# Altium schematic symbol library FPGA_Xilinx_Kintex7.SchLib: 18 symbols (part 4 of 8)
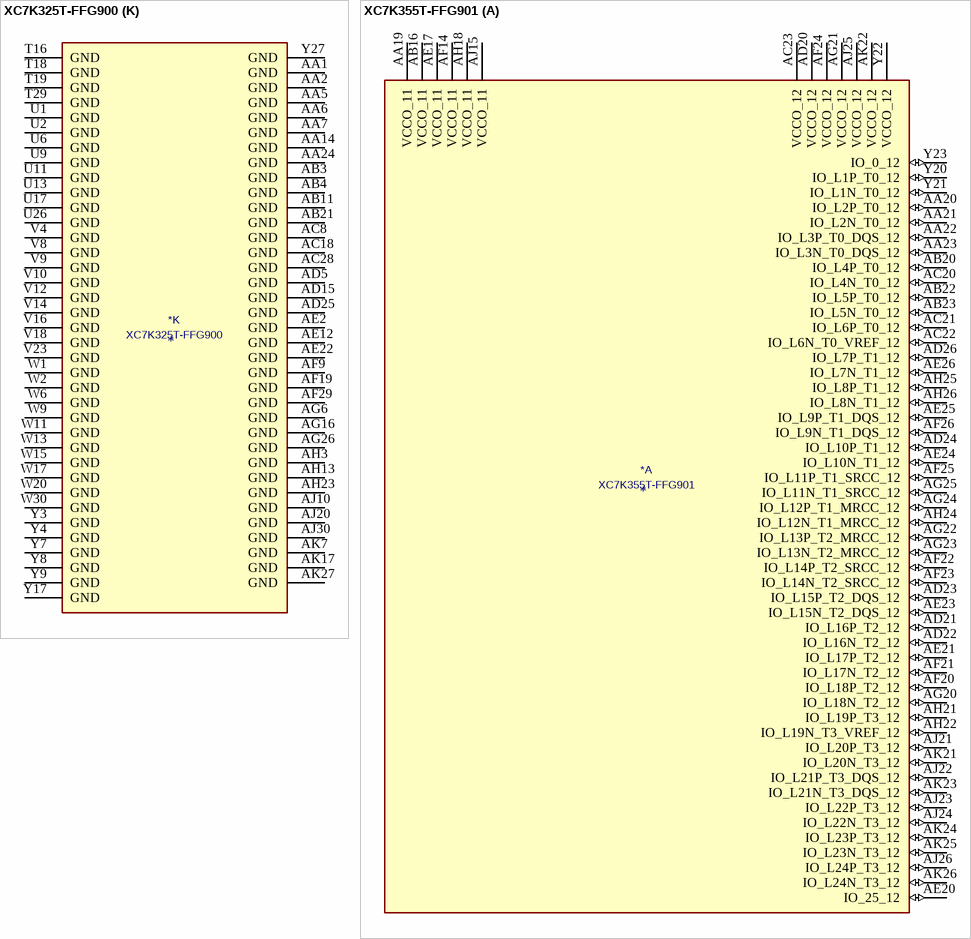
[diagram p55: symbols XC7K325T-FFG900 to XC7K355T-FFG901]

## XC7K325T-FFG900
designator *  value XC7K325T-FFG900
ki_keywords: FPGA; ki_description: Kintex 7 T 325 XC7K325T-FFG900
part A pins: AA20 IO_L6P_T0_12 (io), AA21 IO_L2N_T0_12 (io), AA22 IO_L4P_T0_12 (io), AA23 IO_L4N_T0_12 (io), AA25 IO_L6P_T0_13 (io), AA26 IO_L1N_T0_13 (io), AA27 IO_L5P_T0_13 (io), AA28 IO_L3N_T0_DQS_13 (io), AA29 VCCO_13 (power), AA30 IO_L8N_T1_13 (io), AB20 IO_L6N_T0_VREF_12 (io), AB22 IO_L3P_T0_DQS_12 (io), AB23 IO_L3N_T0_DQS_12 (io), AB24 IO_L7P_T1_12 (io), AB25 IO_L6N_T0_VREF_13 (io), AB26 VCCO_13 (power), AB27 IO_L12P_T1_MRCC_13 (io), AB28 IO_L5N_T0_13 (io), AB29 IO_L10P_T1_13 (io), AB30 IO_L10N_T1_13 (io), AC20 IO_L5P_T0_12 (io), AC21 IO_L5N_T0_12 (io), AC22 IO_L8P_T1_12 (io), AC23 VCCO_12 (power), AC24 IO_L9P_T1_DQS_12 (io), AC25 IO_L7N_T1_12 (io), AC26 IO_L19P_T3_13 (io), AC27 IO_L12N_T1_MRCC_13 (io), AC29 IO_L7P_T1_13 (io), AC30 IO_L7N_T1_13 (io), AD20 VCCO_12 (power), AD21 IO_L10P_T1_12 (io), AD22 IO_L8N_T1_12 (io), AD23 IO_L12P_T1_MRCC_12 (io), AD24 IO_L9N_T1_DQS_12 (io), AD26 IO_L19N_T3_VREF_13 (io), AD27 IO_L11P_T1_SRCC_13 (io), AD28 IO_L11N_T1_SRCC_13 (io), AD29 IO_L9P_T1_DQS_13 (io), AD30 VCCO_13 (power), AE20 IO_25_12 (io), AE21 IO_L10N_T1_12 (io), AE23 IO_L11P_T1_SRCC_12 (io), AE24 IO_L12N_T1_MRCC_12 (io), AE25 IO_L16P_T2_12 (io), AE26 IO_25_13 (io), AE27 VCCO_13 (power), AE28 IO_L14P_T2_SRCC_13 (io), AE29 IO_L9N_T1_DQS_13 (io), AE30 IO_L16P_T2_13 (io), AF20 IO_L19P_T3_12 (io), AF21 IO_L19N_T3_VREF_12 (io), AF22 IO_L13P_T2_MRCC_12 (io), AF23 IO_L11N_T1_SRCC_12 (io), AF24 VCCO_12 (power), AF25 IO_L16N_T2_12 (io), AF26 IO_L23P_T3_13 (io), AF27 IO_L23N_T3_13 (io), AF28 IO_L14N_T2_SRCC_13 (io), AF30 IO_L16N_T2_13 (io), AG20 IO_L22P_T3_12 (io), AG21 VCCO_12 (power), AG22 IO_L20P_T3_12 (io), AG23 IO_L13N_T2_MRCC_12 (io), AG24 IO_L14P_T2_SRCC_12 (io), AG25 IO_L18P_T2_12 (io), AG27 IO_L21P_T3_DQS_13 (io), AG28 IO_L21N_T3_DQS_13 (io), AG29 IO_L13P_T2_MRCC_13 (io), AG30 IO_L18P_T2_13 (io), AH20 IO_L22N_T3_12 (io), AH21 IO_L23P_T3_12 (io), AH22 IO_L20N_T3_12 (io), AH24 IO_L14N_T2_SRCC_12 (io), AH25 IO_L18N_T2_12 (io), AH26 IO_L22P_T3_13 (io), AH27 IO_L22N_T3_13 (io), AH28 VCCO_13 (power), AH29 IO_L13N_T2_MRCC_13 (io), AH30 IO_L18N_T2_13 (io), AJ21 IO_L23N_T3_12 (io), AJ22 IO_L21P_T3_DQS_12 (io), AJ23 IO_L21N_T3_DQS_12 (io), AJ24 IO_L15P_T2_DQS_12 (io), AJ25 VCCO_13 (power), AJ26 IO_L24P_T3_13 (io), AJ27 IO_L20P_T3_13 (io), AJ28 IO_L17P_T2_13 (io), AJ29 IO_L17N_T2_13 (io), AK20 IO_L24P_T3_12 (io), AK21 IO_L24N_T3_12 (io), AK22 VCCO_12 (power), AK23 IO_L17P_T2_12 (io), AK24 IO_L17N_T2_12 (io), AK25 IO_L15N_T2_DQS_12 (io), AK26 IO_L24N_T3_13 (io), AK28 IO_L20N_T3_13 (io), AK29 IO_L15P_T2_DQS_13 (io), AK30 IO_L15N_T2_DQS_13 (io), W27 IO_L2P_T0_13 (io), W28 IO_L2N_T0_13 (io), W29 IO_L4P_T0_13 (io), Y20 IO_0_12 (io), Y21 IO_L2P_T0_12 (io), Y22 VCCO_12 (power), Y23 IO_L1P_T0_12 (io), Y24 IO_L1N_T0_12 (io), Y25 IO_0_13 (io), Y26 IO_L1P_T0_13 (io), Y28 IO_L3P_T0_DQS_13 (io), Y29 IO_L4N_T0_13 (io), Y30 IO_L8P_T1_13 (io)
part B pins: H29 IO_L7N_T1_AD10N_15 (io), J21 IO_L5P_T0_AD2P_15 (io), J22 IO_L5N_T0_AD2N_15 (io), J23 IO_L1P_T0_AD0P_15 (io), J24 IO_L1N_T0_AD0N_15 (io), J25 VCCO_15 (power), J26 IO_L10N_T1_AD4N_15 (io), J27 IO_L8P_T1_AD3P_15 (io), J28 IO_L8N_T1_AD3N_15 (io), J29 IO_L7P_T1_AD10P_15 (io), K21 IO_L4N_T0_AD9N_15 (io), K22 VCCO_15 (power), K23 IO_L3P_T0_DQS_AD1P_15 (io), K24 IO_L3N_T0_DQS_AD1N_15 (io), K25 IO_L12N_T1_MRCC_AD5N_15 (io), K26 IO_L10P_T1_AD4P_15 (io), K28 IO_L13P_T2_MRCC_15 (io), K29 IO_L13N_T2_MRCC_15 (io), K30 IO_L9N_T1_DQS_AD11N_15 (io), L20 IO_L6N_T0_VREF_15 (io), L21 IO_L4P_T0_AD9P_15 (io), L22 IO_L2P_T0_AD8P_15 (io), L23 IO_L2N_T0_AD8N_15 (io), L25 IO_L12P_T1_MRCC_AD5P_15 (io), L26 IO_L11P_T1_SRCC_AD12P_15 (io), L27 IO_L11N_T1_SRCC_AD12N_15 (io), L28 IO_L14N_T2_SRCC_15 (io), L29 VCCO_15 (power), L30 IO_L9P_T1_DQS_AD11P_15 (io), M19 IO_0_15 (io), M20 IO_L6P_T0_15 (io), M22 IO_L24P_T3_RS1_15 (io), M23 IO_L24N_T3_RS0_15 (io), M24 IO_L23P_T3_FOE_B_15 (io), M25 IO_L23N_T3_FWE_B_15 (io), M26 VCCO_15 (power), M27 IO_L16N_T2_A27_15 (io), M28 IO_L14P_T2_SRCC_15 (io), M29 IO_L15P_T2_DQS_15 (io), M30 IO_L15N_T2_DQS_ADV_B_15 (io), N19 IO_L19P_T3_A22_15 (io), N20 IO_L19N_T3_A21_VREF_15 (io), N21 IO_L20P_T3_A20_15 (io), N22 IO_L20N_T3_A19_15 (io), N23 VCCO_15 (power), N24 IO_L21N_T3_DQS_A18_15 (io), N25 IO_L18P_T2_A24_15 (io), N26 IO_L18N_T2_A23_15 (io), N27 IO_L16P_T2_A28_15 (io), N29 IO_L17P_T2_A26_15 (io), N30 IO_L17N_T2_A25_15 (io), P19 IO_25_15 (io), P20 VCCO_15 (power), P21 IO_L22P_T3_A17_15 (io), P22 IO_L22N_T3_A16_15 (io), P23 IO_L21P_T3_DQS_15 (io), P24 IO_L1P_T0_D00_MOSI_14 (io), P26 IO_L10P_T1_D14_14 (io), P27 IO_L8P_T1_D11_14 (io), P28 IO_L8N_T1_D12_14 (io), P29 IO_L7P_T1_D09_14 (io), P30 VCCO_14 (power), R19 IO_0_14 (io), R20 IO_L2P_T0_D02_14 (io), R21 IO_L2N_T0_D03_14 (io), R23 IO_L3P_T0_DQS_PUDC_B_14 (io), R24 IO_L3N_T0_DQS_EMCCLK_14 (io), R25 IO_L1N_T0_D01_DIN_14 (io), R26 IO_L10N_T1_D15_14 (io), R27 VCCO_14 (power), R28 IO_L11P_T1_SRCC_14 (io), R29 IO_L7N_T1_D10_14 (io), R30 IO_L9P_T1_DQS_14 (io), T20 IO_L4P_T0_D04_14 (io), T21 IO_L4N_T0_D05_14 (io), T22 IO_L5P_T0_D06_14 (io), T23 IO_L5N_T0_D07_14 (io), T24 VCCO_14 (power), T25 IO_L14P_T2_SRCC_14 (io), T26 IO_L12P_T1_MRCC_14 (io), T27 IO_L12N_T1_MRCC_14 (io), T28 IO_L11N_T1_SRCC_14 (io), T30 IO_L9N_T1_DQS_D13_14 (io), U19 IO_L6P_T0_FCS_B_14 (io), U20 IO_L6N_T0_D08_VREF_14 (io), U21 VCCO_14 (power), U22 IO_L21P_T3_DQS_14 (io), U23 IO_L21N_T3_DQS_A06_D22_14 (io), U24 IO_L23P_T3_A03_D19_14 (io), U25 IO_L14N_T2_SRCC_14 (io), U27 IO_L13P_T2_MRCC_14 (io), U28 IO_L13N_T2_MRCC_14 (io), U29 IO_L15P_T2_DQS_RDWR_B_14 (io), U30 IO_L15N_T2_DQS_DOUT_CSO_B_14 (io), V19 IO_L19P_T3_A10_D26_14 (io), V20 IO_L19N_T3_A09_D25_VREF_14 (io), V21 IO_L22P_T3_A05_D21_14 (io), V22 IO_L22N_T3_A04_D20_14 (io), V24 IO_L23N_T3_A02_D18_14 (io), V25 IO_L18P_T2_A12_D28_14 (io), V26 IO_L16P_T2_CSI_B_14 (io), V27 IO_L16N_T2_A15_D31_14 (io), V28 VCCO_14 (power), V29 IO_L17P_T2_A14_D30_14 (io), V30 IO_L17N_T2_A13_D29_14 (io), W19 IO_25_14 (io), W21 IO_L24P_T3_A01_D17_14 (io), W22 IO_L24N_T3_A00_D16_14 (io), W23 IO_L20P_T3_A08_D24_14 (io), W24 IO_L20N_T3_A07_D23_14 (io), W25 VCCO_14 (power), W26 IO_L18N_T2_A11_D27_14 (io)
part C pins: A16 IO_L20P_T3_17 (io), A17 IO_L20N_T3_17 (io), A18 IO_L22N_T3_17 (io), A19 VCCO_17 (power), A20 IO_L21P_T3_DQS_17 (io), A21 IO_L21N_T3_DQS_17 (io), A22 IO_L23N_T3_17 (io), A23 IO_L1N_T0_16 (io), A25 IO_L10P_T1_16 (io), A26 IO_L10N_T1_16 (io), A27 IO_L7N_T1_16 (io), A28 IO_L9N_T1_DQS_16 (io), A29 VCCO_16 (power), A30 IO_L17N_T2_16 (io), B16 VCCO_17 (power), B17 IO_L17N_T2_17 (io), B18 IO_L22P_T3_17 (io), B19 IO_L24N_T3_17 (io), B20 IO_L19N_T3_VREF_17 (io), B22 IO_L23P_T3_17 (io), B23 IO_L1P_T0_16 (io), B24 IO_L8N_T1_16 (io), B25 IO_L12N_T1_MRCC_16 (io), B26 VCCO_16 (power), B27 IO_L7P_T1_16 (io), B28 IO_L9P_T1_DQS_16 (io), B29 IO_L15N_T2_DQS_16 (io), B30 IO_L17P_T2_16 (io), C16 IO_L15N_T2_DQS_17 (io), C17 IO_L17P_T2_17 (io), C19 IO_L24P_T3_17 (io), C20 IO_L19P_T3_17 (io), C21 IO_L8N_T1_17 (io), C22 IO_L10N_T1_17 (io), C23 VCCO_16 (power), C24 IO_L8P_T1_16 (io), C25 IO_L12P_T1_MRCC_16 (io), C26 IO_L11N_T1_SRCC_16 (io), C27 IO_L13N_T2_MRCC_16 (io), C29 IO_L15P_T2_DQS_16 (io), C30 IO_L16N_T2_16 (io), D16 IO_L15P_T2_DQS_17 (io), D17 IO_L13P_T2_MRCC_17 (io), D18 IO_L13N_T2_MRCC_17 (io), D19 IO_L14N_T2_SRCC_17 (io), D20 VCCO_17 (power), D21 IO_L8P_T1_17 (io), D22 IO_L10P_T1_17 (io), D23 IO_L2N_T0_16 (io), D24 IO_L4N_T0_16 (io), D26 IO_L11P_T1_SRCC_16 (io), D27 IO_L13P_T2_MRCC_16 (io), D28 IO_L14N_T2_SRCC_16 (io), D29 IO_L16P_T2_16 (io), D30 VCCO_16 (power), E17 VCCO_17 (power), E18 IO_25_17 (io), E19 IO_L14P_T2_SRCC_17 (io), E20 IO_L12N_T1_MRCC_17 (io), E21 IO_L11N_T1_SRCC_17 (io), E23 IO_L2P_T0_16 (io), E24 IO_L4P_T0_16 (io), E25 IO_L3N_T0_DQS_16 (io), E26 IO_L5N_T0_16 (io), E27 VCCO_16 (power), E28 IO_L14P_T2_SRCC_16 (io), E29 IO_L18P_T2_16 (io), E30 IO_L18N_T2_16 (io), F17 IO_L18N_T2_17 (io), F18 IO_L16N_T2_17 (io), F20 IO_L12P_T1_MRCC_17 (io), F21 IO_L11P_T1_SRCC_17 (io), F22 IO_L9N_T1_DQS_17 (io), F23 IO_0_16 (io), F24 VCCO_16 (power), F25 IO_L3P_T0_DQS_16 (io), F26 IO_L5P_T0_16 (io), F27 IO_L21N_T3_DQS_16 (io), F28 IO_L20N_T3_16 (io), F30 IO_L22N_T3_16 (io), G17 IO_L18P_T2_17 (io), G18 IO_L16P_T2_17 (io), G19 IO_0_17 (io), G20 IO_L2N_T0_17 (io), G21 VCCO_17 (power), G22 IO_L9P_T1_DQS_17 (io), G23 IO_L6P_T0_16 (io), G24 IO_L6N_T0_VREF_16 (io), G25 IO_25_16 (io), G27 IO_L21P_T3_DQS_16 (io), G28 IO_L20P_T3_16 (io), G29 IO_L22P_T3_16 (io), G30 IO_L24N_T3_16 (io), H17 IO_L3N_T0_DQS_17 (io), H18 VCCO_17 (power), H19 IO_L4N_T0_17 (io), H20 IO_L2P_T0_17 (io), H21 IO_L7P_T1_17 (io), H22 IO_L7N_T1_17 (io), H24 IO_L19P_T3_16 (io), H25 IO_L19N_T3_VREF_16 (io), H26 IO_L23P_T3_16 (io), H27 IO_L23N_T3_16 (io), H28 VCCO_16 (power), H30 IO_L24P_T3_16 (io), J17 IO_L3P_T0_DQS_17 (io), J18 IO_L1N_T0_17 (io), J19 IO_L4P_T0_17 (io), K18 IO_L1P_T0_17 (io), K19 IO_L6P_T0_17 (io), K20 IO_L6N_T0_VREF_17 (io), L17 IO_L5P_T0_17 (io), L18 IO_L5N_T0_17 (io), L19 VCCO_17 (power)
part D pins: A11 IO_L17P_T2_18 (io), A12 IO_L17N_T2_18 (io), A13 IO_L22N_T3_18 (io), A15 IO_L24N_T3_18 (io), AA15 IO_L20P_T3_32 (io), AA16 IO_L23N_T3_32 (io), AA17 IO_L23P_T3_32 (io), AA18 IO_L16P_T2_32 (io), AA19 VCCO_32 (power), AB14 IO_25_VRP_32 (io), AB15 IO_L20N_T3_32 (io), AB16 VCCO_32 (power), AB17 IO_L18P_T2_32 (io), AB18 IO_L16N_T2_32 (io), AB19 IO_L17P_T2_32 (io), AC14 IO_L22P_T3_32 (io), AC15 IO_L21N_T3_DQS_32 (io), AC16 IO_L21P_T3_DQS_32 (io), AC17 IO_L18N_T2_32 (io), AC19 IO_L17N_T2_32 (io), AD14 IO_L22N_T3_32 (io), AD16 IO_L14N_T2_SRCC_32 (io), AD17 IO_L14P_T2_SRCC_32 (io), AD18 IO_L13P_T2_MRCC_32 (io), AD19 IO_L10P_T1_32 (io), AE14 IO_L19N_T3_VREF_32 (io), AE15 IO_L19P_T3_32 (io), AE16 IO_L6P_T0_32 (io), AE17 VCCO_32 (power), AE18 IO_L13N_T2_MRCC_32 (io), AE19 IO_L10N_T1_32 (io), AF14 VCCO_32 (power), AF15 IO_L4P_T0_32 (io), AF16 IO_L6N_T0_VREF_32 (io), AF17 IO_L12P_T1_MRCC_32 (io), AF18 IO_L11P_T1_SRCC_32 (io), AG14 IO_L4N_T0_32 (io), AG15 IO_L2P_T0_32 (io), AG17 IO_L12N_T1_MRCC_32 (io), AG18 IO_L11N_T1_SRCC_32 (io), AG19 IO_L8P_T1_32 (io), AH15 IO_L2N_T0_32 (io), AH16 IO_L3P_T0_DQS_32 (io), AH17 IO_L5P_T0_32 (io), AH18 VCCO_32 (power), AH19 IO_L8N_T1_32 (io), AJ15 VCCO_32 (power), AJ16 IO_L3N_T0_DQS_32 (io), AJ17 IO_L5N_T0_32 (io), AJ18 IO_L9P_T1_DQS_32 (io), AJ19 IO_L7P_T1_32 (io), AK15 IO_L1N_T0_32 (io), AK16 IO_L1P_T0_32 (io), AK18 IO_L9N_T1_DQS_32 (io), AK19 IO_L7N_T1_32 (io), B12 IO_L15N_T2_DQS_18 (io), B13 IO_L22P_T3_18 (io), B14 IO_L24P_T3_18 (io), B15 IO_L23N_T3_18 (io), C11 IO_L18N_T2_18 (io), C12 IO_L15P_T2_DQS_18 (io), C13 VCCO_18 (power), C14 IO_L21N_T3_DQS_18 (io), C15 IO_L23P_T3_18 (io), D10 VCCO_18 (power), D11 IO_L18P_T2_18 (io), D12 IO_L13P_T2_MRCC_18 (io), D13 IO_L13N_T2_MRCC_18 (io), D14 IO_L21P_T3_DQS_18 (io), E11 IO_L16N_T2_18 (io), E13 IO_L14N_T2_SRCC_18 (io), E14 IO_L20P_T3_18 (io), E15 IO_L20N_T3_18 (io), E16 IO_L19N_T3_VREF_18 (io), F11 IO_L16P_T2_18 (io), F12 IO_L14P_T2_SRCC_18 (io), F13 IO_L12N_T1_MRCC_18 (io), F14 VCCO_18 (power), F15 IO_L19P_T3_18 (io), F16 IO_25_18 (io), G11 VCCO_18 (power), G12 IO_0_18 (io), G13 IO_L12P_T1_MRCC_18 (io), G14 IO_L11N_T1_SRCC_18 (io), G15 IO_L7N_T1_18 (io), H11 IO_L10P_T1_18 (io), H12 IO_L10N_T1_18 (io), H14 IO_L11P_T1_SRCC_18 (io), H15 IO_L7P_T1_18 (io), H16 IO_L9N_T1_DQS_18 (io), J11 IO_L8P_T1_18 (io), J12 IO_L8N_T1_18 (io), J13 IO_L4N_T0_18 (io), J14 IO_L5N_T0_18 (io), J15 VCCO_18 (power), J16 IO_L9P_T1_DQS_18 (io), K11 IO_L6N_T0_VREF_18 (io), K12 VCCO_18 (power), K13 IO_L4P_T0_18 (io), K14 IO_L5P_T0_18 (io), K15 IO_L2N_T0_18 (io), K16 IO_L1N_T0_18 (io), L11 IO_L6P_T0_18 (io), L12 IO_L3P_T0_DQS_18 (io), L13 IO_L3N_T0_DQS_18 (io), L15 IO_L2P_T0_18 (io), L16 IO_L1P_T0_18 (io), Y14 IO_0_VRN_32 (io), Y15 IO_L24N_T3_32 (io), Y16 IO_L24P_T3_32 (io), Y18 IO_L15N_T2_DQS_32 (io), Y19 IO_L15P_T2_DQS_32 (io)
part E pins: AA8 IO_L2P_T0_33 (io), AA9 VCCO_33 (power), AA10 IO_L5N_T0_33 (io), AA11 IO_L5P_T0_33 (io), AA12 IO_L1P_T0_33 (io), AA13 IO_L6P_T0_33 (io), AB7 IO_25_VRP_34 (io), AB8 IO_L2N_T0_33 (io), AB9 IO_L3P_T0_DQS_33 (io), AB10 IO_L7P_T1_33 (io), AB12 IO_L1N_T0_33 (io), AB13 IO_L6N_T0_VREF_33 (io), AC1 IO_L2N_T0_34 (io), AC2 IO_L2P_T0_34 (io), AC3 VCCO_34 (power), AC4 IO_L4N_T0_34 (io), AC5 IO_L4P_T0_34 (io), AC6 IO_0_VRN_34 (io), AC7 IO_L6P_T0_34 (io), AC9 IO_L3N_T0_DQS_33 (io), AC10 IO_L7N_T1_33 (io), AC11 IO_L9N_T1_DQS_33 (io), AC12 IO_L9P_T1_DQS_33 (io), AC13 VCCO_33 (power), AD1 IO_L3N_T0_DQS_34 (io), AD2 IO_L3P_T0_DQS_34 (io), AD3 IO_L1N_T0_34 (io), AD4 IO_L1P_T0_34 (io), AD6 IO_L5P_T0_34 (io), AD7 IO_L6N_T0_VREF_34 (io), AD8 IO_L8P_T1_33 (io), AD9 IO_L10P_T1_33 (io), AD10 VCCO_33 (power), AD11 IO_L12N_T1_MRCC_33 (io), AD12 IO_L12P_T1_MRCC_33 (io), AD13 IO_25_VRP_33 (io), AE1 IO_L8P_T1_34 (io), AE3 IO_L10N_T1_34 (io), AE4 IO_L10P_T1_34 (io), AE5 IO_L11P_T1_SRCC_34 (io), AE6 IO_L5N_T0_34 (io), AE7 VCCO_34 (power), AE8 IO_L8N_T1_33 (io), AE9 IO_L10N_T1_33 (io), AE10 IO_L14P_T2_SRCC_33 (io), AE11 IO_L11P_T1_SRCC_33 (io), AE13 IO_L19P_T3_33 (io), AF1 IO_L8N_T1_34 (io), AF2 IO_L7N_T1_34 (io), AF3 IO_L7P_T1_34 (io), AF4 VCCO_34 (power), AF5 IO_L11N_T1_SRCC_34 (io), AF6 IO_L12P_T1_MRCC_34 (io), AF7 IO_L20P_T3_34 (io), AF8 IO_L19P_T3_34 (io), AF10 IO_L14N_T2_SRCC_33 (io), AF11 IO_L11N_T1_SRCC_33 (io), AF12 IO_L23P_T3_33 (io), AF13 IO_L19N_T3_VREF_33 (io), AG1 VCCO_34 (power), AG2 IO_L15P_T2_DQS_34 (io), AG3 IO_L9N_T1_DQS_34 (io), AG4 IO_L9P_T1_DQS_34 (io), AG5 IO_L12N_T1_MRCC_34 (io), AG7 IO_L20N_T3_34 (io), AG8 IO_L19N_T3_VREF_34 (io), AG9 IO_L16P_T2_33 (io), AG10 IO_L13P_T2_MRCC_33 (io), AG11 VCCO_33 (power), AG12 IO_L23N_T3_33 (io), AG13 IO_L24P_T3_33 (io), AH1 IO_L15N_T2_DQS_34 (io), AH2 IO_L16P_T2_34 (io), AH4 IO_L13P_T2_MRCC_34 (io), AH5 IO_L14N_T2_SRCC_34 (io), AH6 IO_L14P_T2_SRCC_34 (io), AH7 IO_L21P_T3_DQS_34 (io), AH8 VCCO_34 (power), AH9 IO_L16N_T2_33 (io), AH10 IO_L13N_T2_MRCC_33 (io), AH11 IO_L18P_T2_33 (io), AH12 IO_L24N_T3_33 (io), AH14 IO_L21P_T3_DQS_33 (io), AJ1 IO_L17P_T2_34 (io), AJ2 IO_L16N_T2_34 (io), AJ3 IO_L18P_T2_34 (io), AJ4 IO_L13N_T2_MRCC_34 (io), AJ5 VCCO_34 (power), AJ6 IO_L22P_T3_34 (io), AJ7 IO_L21N_T3_DQS_34 (io), AJ8 IO_L23P_T3_34 (io), AJ9 IO_L15P_T2_DQS_33 (io), AJ11 IO_L18N_T2_33 (io), AJ12 IO_L22N_T3_33 (io), AJ13 IO_L22P_T3_33 (io), AJ14 IO_L21N_T3_DQS_33 (io), AK1 IO_L17N_T2_34 (io), AK2 VCCO_34 (power), AK3 IO_L18N_T2_34 (io), AK4 IO_L24N_T3_34 (io), AK5 IO_L24P_T3_34 (io), AK6 IO_L22N_T3_34 (io), AK8 IO_L23N_T3_34 (io), AK9 IO_L15N_T2_DQS_33 (io), AK10 IO_L17N_T2_33 (io), AK11 IO_L17P_T2_33 (io), AK12 VCCO_33 (power), AK13 IO_L20N_T3_33 (io), AK14 IO_L20P_T3_33 (io), Y10 IO_L4N_T0_33 (io), Y11 IO_L4P_T0_33 (io), Y12 VCCO_33 (power), Y13 IO_0_VRN_33 (io)
part F pins: AA3 MGTXRXN0_115 (io), AA4 MGTXRXP0_115 (io), L3 MGTXTXN3_116 (io), L4 MGTXTXP3_116 (io), L7 MGTREFCLK0N_116 (io), L8 MGTREFCLK0P_116 (io), M1 MGTXTXN2_116 (io), M2 MGTXTXP2_116 (io), M5 MGTXRXN3_116 (io), M6 MGTXRXP3_116 (io), N3 MGTXTXN1_116 (io), N4 MGTXTXP1_116 (io), N7 MGTREFCLK1N_116 (io), N8 MGTREFCLK1P_116 (io), P1 MGTXTXN0_116 (io), P2 MGTXTXP0_116 (io), P5 MGTXRXN2_116 (io), P6 MGTXRXP2_116 (io), R3 MGTXRXN1_116 (io), R4 MGTXRXP1_116 (io), R7 MGTREFCLK0N_115 (io), R8 MGTREFCLK0P_115 (io), T1 MGTXTXN3_115 (io), T2 MGTXTXP3_115 (io), T5 MGTXRXN0_116 (io), T6 MGTXRXP0_116 (io), U3 MGTXTXN2_115 (io), U4 MGTXTXP2_115 (io), U7 MGTREFCLK1N_115 (io), U8 MGTREFCLK1P_115 (io), V1 MGTXTXN1_115 (io), V2 MGTXTXP1_115 (io), V5 MGTXRXN3_115 (io), V6 MGTXRXP3_115 (io), W3 MGTXRXN2_115 (io), W4 MGTXRXP2_115 (io), Y1 MGTXTXN0_115 (io), Y2 MGTXTXP0_115 (io), Y5 MGTXRXN1_115 (io), Y6 MGTXRXP1_115 (io)
part G pins: A3 MGTXTXN3_118 (io), A4 MGTXTXP3_118 (io), A7 MGTXRXN3_118 (io), A8 MGTXRXP3_118 (io), B1 MGTXTXN2_118 (io), B2 MGTXTXP2_118 (io), B5 MGTXRXN2_118 (io), B6 MGTXRXP2_118 (io), C3 MGTXTXN1_118 (io), C4 MGTXTXP1_118 (io), C7 MGTREFCLK0N_118 (io), C8 MGTREFCLK0P_118 (io), D1 MGTXTXN0_118 (io), D2 MGTXTXP0_118 (io), D5 MGTXRXN1_118 (io), D6 MGTXRXP1_118 (io), E3 MGTXRXN0_118 (io), E4 MGTXRXP0_118 (io), E7 MGTREFCLK1N_118 (io), E8 MGTREFCLK1P_118 (io), F1 MGTXTXN3_117 (io), F2 MGTXTXP3_117 (io), F5 MGTXRXN3_117 (io), F6 MGTXRXP3_117 (io), G3 MGTXRXN2_117 (io), G4 MGTXRXP2_117 (io), G7 MGTREFCLK0N_117 (io), G8 MGTREFCLK0P_117 (io), H1 MGTXTXN2_117 (io), H2 MGTXTXP2_117 (io), H5 MGTXRXN1_117 (io), H6 MGTXRXP1_117 (io), J3 MGTXTXN1_117 (io), J4 MGTXTXP1_117 (io), J7 MGTREFCLK1N_117 (io), J8 MGTREFCLK1P_117 (io), K1 MGTXTXN0_117 (io), K2 MGTXTXP0_117 (io), K5 MGTXRXN0_117 (io), K6 MGTXRXP0_117 (io)
part H pins: B3 MGTAVTT (power), B7 MGTAVCC (power), C5 MGTAVTT (power), D3 MGTAVTT (power), D7 MGTAVCC (power), E5 MGTAVTT (power), F3 MGTAVTT (power), F7 MGTAVCC (power), G5 MGTAVTT (power), H3 MGTAVTT (power), H7 MGTAVCC (power), J5 MGTAVTT (power), K3 MGTAVTT (power), K7 MGTAVCC (power), L5 MGTAVTT (power), M3 MGTAVTT (power), M7 MGTAVCC (power), N5 MGTAVTT (power), P3 MGTAVTT (power), P7 MGTAVCC (power), R5 MGTAVTT (power), T3 MGTAVTT (power), T7 MGTVCCAUX (power), U5 MGTAVTT (power), V3 MGTAVTT (power), V7 MGTVCCAUX (power), W5 MGTAVTT (power), W7 MGTAVTTRCAL_115 (power), W8 MGTRREF_115 (power)
part I pins: A10 INIT_B_0 (io), AB1 M2_0 (io), AB2 M1_0 (io), AB5 M0_0 (io), AB6 VCCO_0 (power), B10 CCLK_0 (io), E10 TCK_0 (io), F10 TMS_0 (io), G10 TDO_0 (io), H10 TDI_0 (io), K10 PROGRAM_B_0 (io), L10 CFGBVS_0 (io), M10 DONE_0 (io), R14 VREFN_0 (io), R15 VP_0 (io), T9 VCCO_0 (power), T14 VN_0 (io), T15 VREFP_0 (io), U14 DXN_0 (io), U15 DXP_0 (io)
part J pins: A1 GND (power), A2 GND (power), A5 GND (power), A6 GND (power), A9 GND (power), A14 GND (power), A24 GND (power), B4 GND (power), B8 GND (power), B9 GND (power), B11 GND (power), B21 GND (power), C1 GND (power), C2 GND (power), C6 GND (power), C9 GND (power), C10 VCCBATT_0 (power), C18 GND (power), C28 GND (power), D4 GND (power), D8 GND (power), D9 GND (power), D15 GND (power), D25 GND (power), E1 GND (power), E2 GND (power), E6 GND (power), E9 GND (power), E12 GND (power), E22 GND (power), F4 GND (power), F8 GND (power), F9 GND (power), F19 GND (power), F29 GND (power), G1 GND (power), G2 GND (power), G6 GND (power), G9 GND (power), G16 GND (power), G26 GND (power), H4 GND (power), H8 GND (power), H9 GND (power), H13 GND (power), H23 GND (power), J1 GND (power), J2 GND (power), J6 GND (power), J9 GND (power), J10 GND (power), J20 GND (power), J30 GND (power), K4 GND (power), K8 GND (power), K9 GND (power), K17 GND (power), K27 GND (power), L1 GND (power), L2 GND (power), L6 GND (power), L9 GND (power), L14 GND (power), L24 GND (power), M4 GND (power), M8 GND (power), M9 GND (power), M11 VCCINT (power), M12 GND (power), M13 VCCINT (power), M14 GND (power), M15 VCCINT (power), M16 GND (power), M17 VCCINT (power), M18 GND (power), M21 GND (power), N1 GND (power), N2 GND (power), N6 GND (power), N9 GND (power), N10 VCCINT (power), N11 GND (power), N12 VCCINT (power), N13 GND (power), N14 VCCINT (power), N15 GND (power), N16 VCCBRAM (power), N17 GND (power), N18 VCCINT (power), N28 GND (power), P4 GND (power), P8 GND (power), P9 GND (power), P10 GND (power), P11 VCCINT (power), P12 GND (power), P13 VCCAUX (power), P14 GNDADC_0 (power), P15 VCCADC_0 (power), P16 GND (power), P17 VCCINT (power), P18 GND (power), P25 GND (power), R1 GND (power), R2 GND (power), R6 GND (power), R9 GND (power), R10 VCCINT (power), R11 GND (power), R12 VCCINT (power), R13 GND (power), R16 VCCBRAM (power), R17 GND (power), R18 VCCINT (power), R22 GND (power), T4 GND (power), T8 GND (power), T10 GND (power), T11 VCCINT (power), T12 GND (power), T13 VCCAUX (power), T17 VCCINT (power), U10 VCCINT (power), U12 VCCINT (power), U16 VCCBRAM (power), U18 VCCINT (power), V11 VCCAUX_IO_G0 (power), V13 VCCAUX (power), V15 VCCAUX (power), V17 VCCINT (power), W10 VCCAUX_IO_G0 (power), W12 VCCAUX_IO_G0 (power), W14 VCCAUX (power), W16 VCCBRAM (power), W18 VCCINT (power)
part K pins: AA1 GND (power), AA2 GND (power), AA5 GND (power), AA6 GND (power), AA7 GND (power), AA14 GND (power), AA24 GND (power), AB3 GND (power), AB4 GND (power), AB11 GND (power), AB21 GND (power), AC8 GND (power), AC18 GND (power), AC28 GND (power), AD5 GND (power), AD15 GND (power), AD25 GND (power), AE2 GND (power), AE12 GND (power), AE22 GND (power), AF9 GND (power), AF19 GND (power), AF29 GND (power), AG6 GND (power), AG16 GND (power), AG26 GND (power), AH3 GND (power), AH13 GND (power), AH23 GND (power), AJ10 GND (power), AJ20 GND (power), AJ30 GND (power), AK7 GND (power), AK17 GND (power), AK27 GND (power), T16 GND (power), T18 GND (power), T19 GND (power), T29 GND (power), U1 GND (power), U2 GND (power), U6 GND (power), U9 GND (power), U11 GND (power), U13 GND (power), U17 GND (power), U26 GND (power), V4 GND (power), V8 GND (power), V9 GND (power), V10 GND (power), V12 GND (power), V14 GND (power), V16 GND (power), V18 GND (power), V23 GND (power), W1 GND (power), W2 GND (power), W6 GND (power), W9 GND (power), W11 GND (power), W13 GND (power), W15 GND (power), W17 GND (power), W20 GND (power), W30 GND (power), Y3 GND (power), Y4 GND (power), Y7 GND (power), Y8 GND (power), Y9 GND (power), Y17 GND (power), Y27 GND (power)

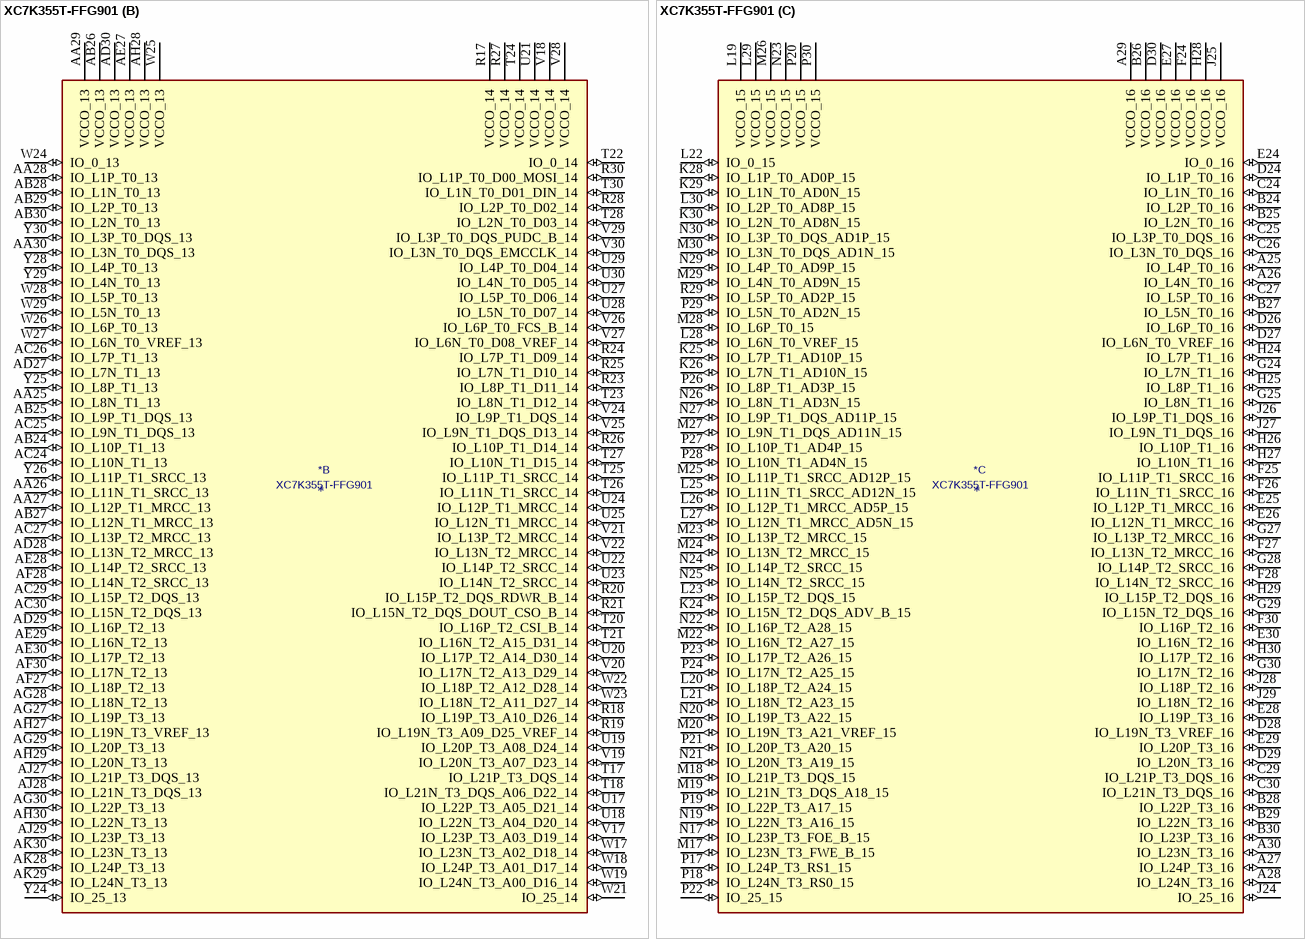
[diagram p24: symbol XC7K355T-FFG901]

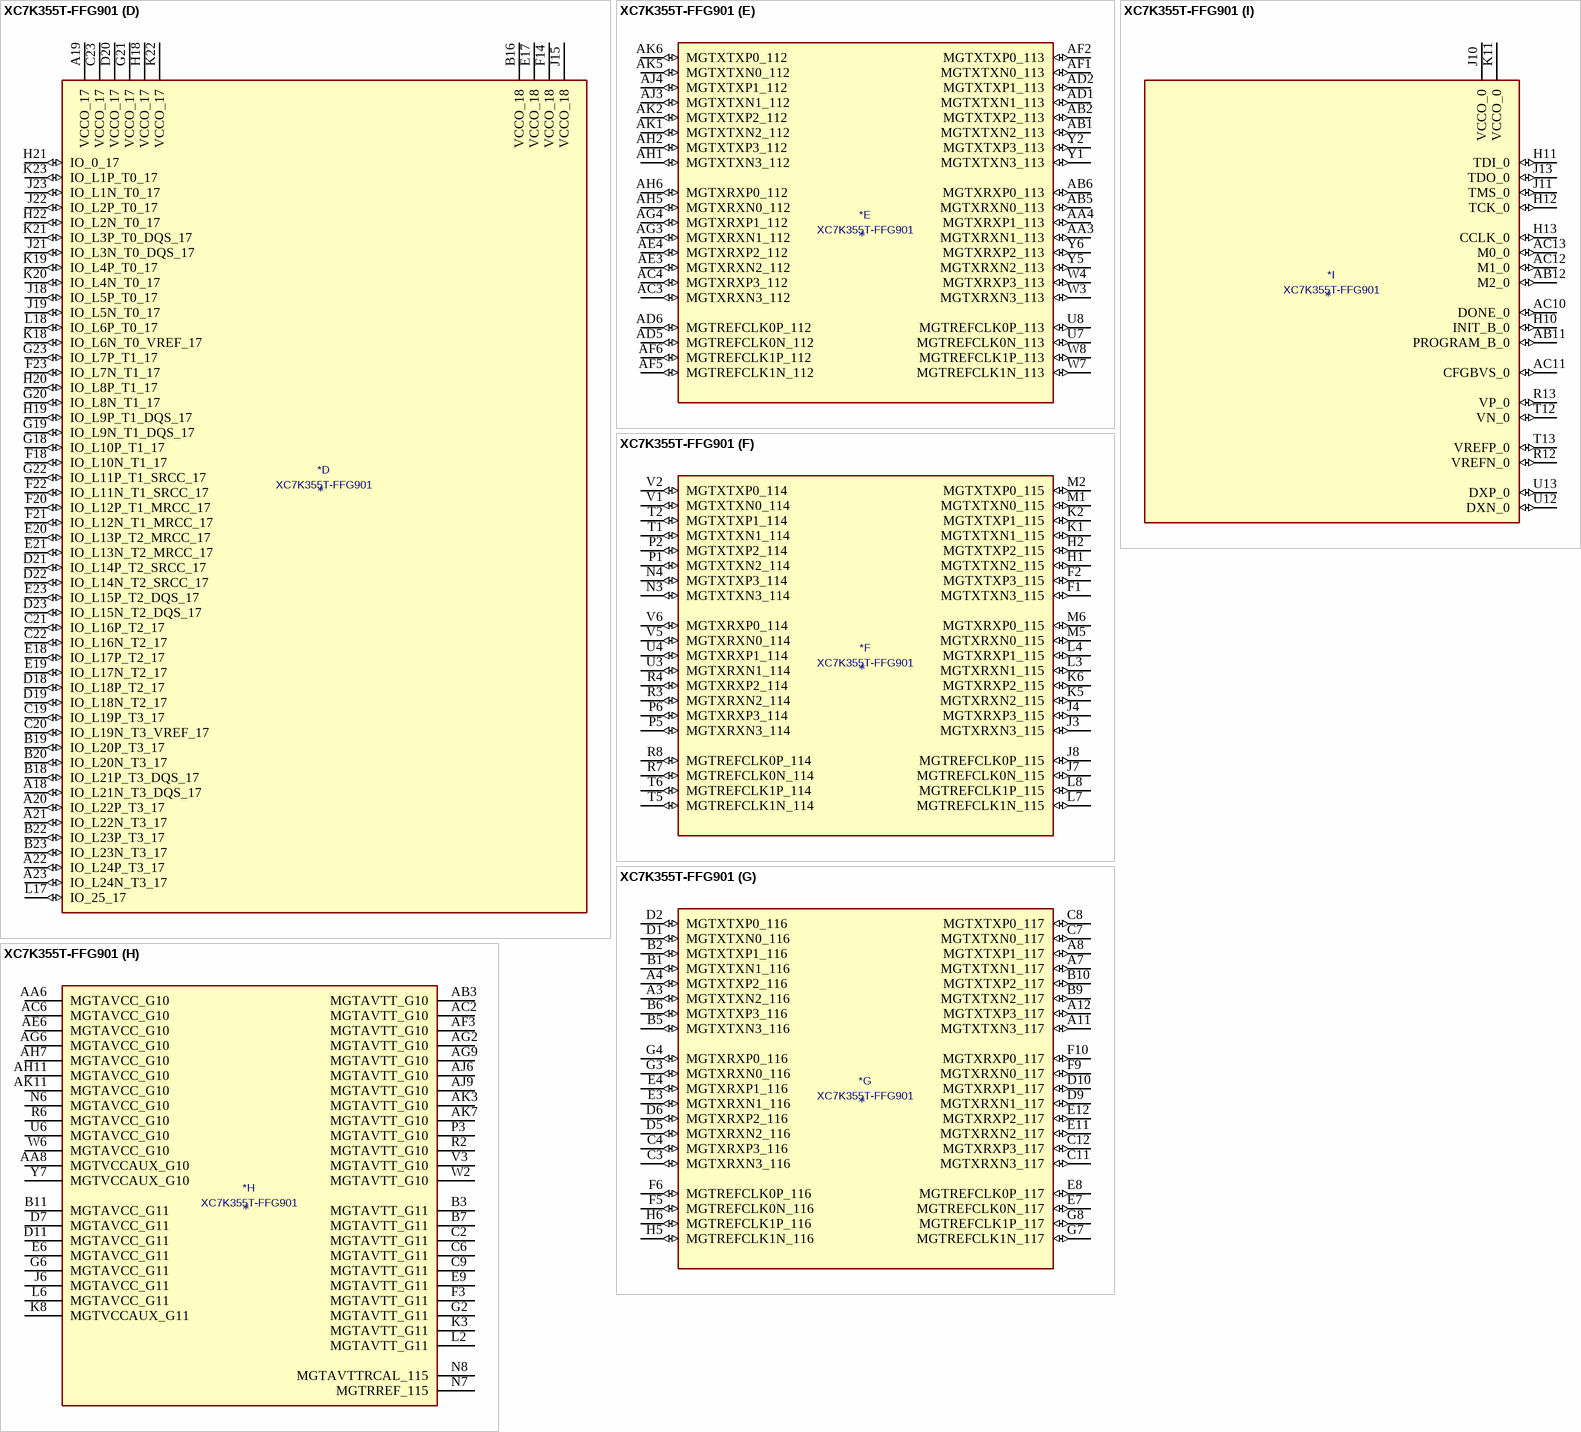
[diagram p25: symbol XC7K355T-FFG901]

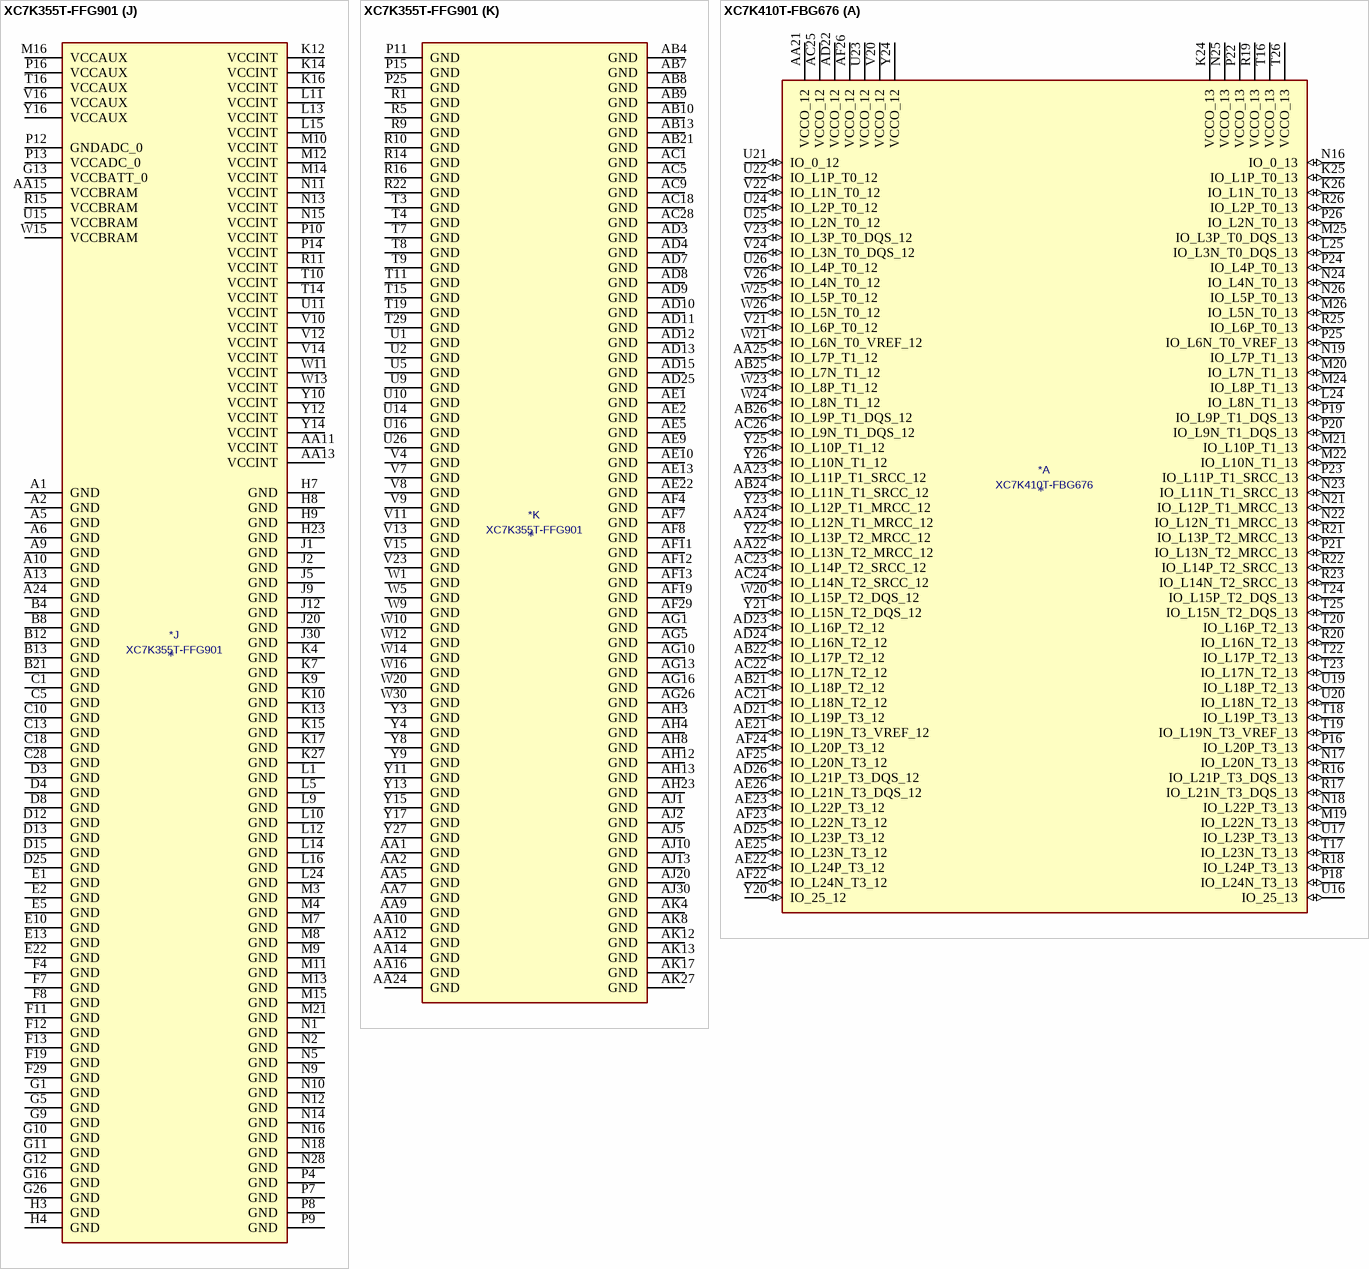
[diagram p26: symbols XC7K355T-FFG901 to XC7K410T-FBG676]

## XC7K355T-FFG901
designator *  value XC7K355T-FFG901
ki_keywords: FPGA; ki_description: Kintex 7 T 355 XC7K355T-FFG901
part A pins: AA19 VCCO_11 (power), AA20 IO_L2P_T0_12 (io), AA21 IO_L2N_T0_12 (io), AA22 IO_L3P_T0_DQS_12 (io), AA23 IO_L3N_T0_DQS_12 (io), AB16 VCCO_11 (power), AB20 IO_L4P_T0_12 (io), AB22 IO_L5P_T0_12 (io), AB23 IO_L5N_T0_12 (io), AC20 IO_L4N_T0_12 (io), AC21 IO_L6P_T0_12 (io), AC22 IO_L6N_T0_VREF_12 (io), AC23 VCCO_12 (power), AD20 VCCO_12 (power), AD21 IO_L16P_T2_12 (io), AD22 IO_L16N_T2_12 (io), AD23 IO_L15P_T2_DQS_12 (io), AD24 IO_L10P_T1_12 (io), AD26 IO_L7P_T1_12 (io), AE17 VCCO_11 (power), AE20 IO_25_12 (io), AE21 IO_L17P_T2_12 (io), AE23 IO_L15N_T2_DQS_12 (io), AE24 IO_L10N_T1_12 (io), AE25 IO_L9P_T1_DQS_12 (io), AE26 IO_L7N_T1_12 (io), AF14 VCCO_11 (power), AF20 IO_L18P_T2_12 (io), AF21 IO_L17N_T2_12 (io), AF22 IO_L14P_T2_SRCC_12 (io), AF23 IO_L14N_T2_SRCC_12 (io), AF24 VCCO_12 (power), AF25 IO_L11P_T1_SRCC_12 (io), AF26 IO_L9N_T1_DQS_12 (io), AG20 IO_L18N_T2_12 (io), AG21 VCCO_12 (power), AG22 IO_L13P_T2_MRCC_12 (io), AG23 IO_L13N_T2_MRCC_12 (io), AG24 IO_L12P_T1_MRCC_12 (io), AG25 IO_L11N_T1_SRCC_12 (io), AH18 VCCO_11 (power), AH21 IO_L19P_T3_12 (io), AH22 IO_L19N_T3_VREF_12 (io), AH24 IO_L12N_T1_MRCC_12 (io), AH25 IO_L8P_T1_12 (io), AH26 IO_L8N_T1_12 (io), AJ15 VCCO_11 (power), AJ21 IO_L20P_T3_12 (io), AJ22 IO_L21P_T3_DQS_12 (io), AJ23 IO_L22P_T3_12 (io), AJ24 IO_L22N_T3_12 (io), AJ25 VCCO_12 (power), AJ26 IO_L24P_T3_12 (io), AK21 IO_L20N_T3_12 (io), AK22 VCCO_12 (power), AK23 IO_L21N_T3_DQS_12 (io), AK24 IO_L23P_T3_12 (io), AK25 IO_L23N_T3_12 (io), AK26 IO_L24N_T3_12 (io), Y20 IO_L1P_T0_12 (io), Y21 IO_L1N_T0_12 (io), Y22 VCCO_12 (power), Y23 IO_0_12 (io)
part B pins: AA25 IO_L8N_T1_13 (io), AA26 IO_L11N_T1_SRCC_13 (io), AA27 IO_L12P_T1_MRCC_13 (io), AA28 IO_L1P_T0_13 (io), AA29 VCCO_13 (power), AA30 IO_L3N_T0_DQS_13 (io), AB24 IO_L10P_T1_13 (io), AB25 IO_L9P_T1_DQS_13 (io), AB26 VCCO_13 (power), AB27 IO_L12N_T1_MRCC_13 (io), AB28 IO_L1N_T0_13 (io), AB29 IO_L2P_T0_13 (io), AB30 IO_L2N_T0_13 (io), AC24 IO_L10N_T1_13 (io), AC25 IO_L9N_T1_DQS_13 (io), AC26 IO_L7P_T1_13 (io), AC27 IO_L13P_T2_MRCC_13 (io), AC29 IO_L15P_T2_DQS_13 (io), AC30 IO_L15N_T2_DQS_13 (io), AD27 IO_L7N_T1_13 (io), AD28 IO_L13N_T2_MRCC_13 (io), AD29 IO_L16P_T2_13 (io), AD30 VCCO_13 (power), AE27 VCCO_13 (power), AE28 IO_L14P_T2_SRCC_13 (io), AE29 IO_L16N_T2_13 (io), AE30 IO_L17P_T2_13 (io), AF27 IO_L18P_T2_13 (io), AF28 IO_L14N_T2_SRCC_13 (io), AF30 IO_L17N_T2_13 (io), AG27 IO_L19P_T3_13 (io), AG28 IO_L18N_T2_13 (io), AG29 IO_L20P_T3_13 (io), AG30 IO_L22P_T3_13 (io), AH27 IO_L19N_T3_VREF_13 (io), AH28 VCCO_13 (power), AH29 IO_L20N_T3_13 (io), AH30 IO_L22N_T3_13 (io), AJ27 IO_L21P_T3_DQS_13 (io), AJ28 IO_L21N_T3_DQS_13 (io), AJ29 IO_L23P_T3_13 (io), AK28 IO_L24P_T3_13 (io), AK29 IO_L24N_T3_13 (io), AK30 IO_L23N_T3_13 (io), R17 VCCO_14 (power), R18 IO_L19P_T3_A10_D26_14 (io), R19 IO_L19N_T3_A09_D25_VREF_14 (io), R20 IO_L15P_T2_DQS_RDWR_B_14 (io), R21 IO_L15N_T2_DQS_DOUT_CSO_B_14 (io), R23 IO_L8P_T1_D11_14 (io), R24 IO_L7P_T1_D09_14 (io), R25 IO_L7N_T1_D10_14 (io), R26 IO_L10P_T1_D14_14 (io), R27 VCCO_14 (power), R28 IO_L2P_T0_D02_14 (io), R30 IO_L1P_T0_D00_MOSI_14 (io), T17 IO_L21P_T3_DQS_14 (io), T18 IO_L21N_T3_DQS_A06_D22_14 (io), T20 IO_L16P_T2_CSI_B_14 (io), T21 IO_L16N_T2_A15_D31_14 (io), T22 IO_0_14 (io), T23 IO_L8N_T1_D12_14 (io), T24 VCCO_14 (power), T25 IO_L11P_T1_SRCC_14 (io), T26 IO_L11N_T1_SRCC_14 (io), T27 IO_L10N_T1_D15_14 (io), T28 IO_L2N_T0_D03_14 (io), T30 IO_L1N_T0_D01_DIN_14 (io), U17 IO_L22P_T3_A05_D21_14 (io), U18 IO_L22N_T3_A04_D20_14 (io), U19 IO_L20P_T3_A08_D24_14 (io), U20 IO_L17P_T2_A14_D30_14 (io), U21 VCCO_14 (power), U22 IO_L14P_T2_SRCC_14 (io), U23 IO_L14N_T2_SRCC_14 (io), U24 IO_L12P_T1_MRCC_14 (io), U25 IO_L12N_T1_MRCC_14 (io), U27 IO_L5P_T0_D06_14 (io), U28 IO_L5N_T0_D07_14 (io), U29 IO_L4P_T0_D04_14 (io), U30 IO_L4N_T0_D05_14 (io), V17 IO_L23P_T3_A03_D19_14 (io), V18 VCCO_14 (power), V19 IO_L20N_T3_A07_D23_14 (io), V20 IO_L17N_T2_A13_D29_14 (io), V21 IO_L13P_T2_MRCC_14 (io), V22 IO_L13N_T2_MRCC_14 (io), V24 IO_L9P_T1_DQS_14 (io), V25 IO_L9N_T1_DQS_D13_14 (io), V26 IO_L6P_T0_FCS_B_14 (io), V27 IO_L6N_T0_D08_VREF_14 (io), V28 VCCO_14 (power), V29 IO_L3P_T0_DQS_PUDC_B_14 (io), V30 IO_L3N_T0_DQS_EMCCLK_14 (io), W17 IO_L23N_T3_A02_D18_14 (io), W18 IO_L24P_T3_A01_D17_14 (io), W19 IO_L24N_T3_A00_D16_14 (io), W21 IO_25_14 (io), W22 IO_L18P_T2_A12_D28_14 (io), W23 IO_L18N_T2_A11_D27_14 (io), W24 IO_0_13 (io), W25 VCCO_13 (power), W26 IO_L6P_T0_13 (io), W27 IO_L6N_T0_VREF_13 (io), W28 IO_L5P_T0_13 (io), W29 IO_L5N_T0_13 (io), Y24 IO_25_13 (io), Y25 IO_L8P_T1_13 (io), Y26 IO_L11P_T1_SRCC_13 (io), Y28 IO_L4P_T0_13 (io), Y29 IO_L4N_T0_13 (io), Y30 IO_L3P_T0_DQS_13 (io)
part C pins: A25 IO_L4P_T0_16 (io), A26 IO_L4N_T0_16 (io), A27 IO_L24P_T3_16 (io), A28 IO_L24N_T3_16 (io), A29 VCCO_16 (power), A30 IO_L23N_T3_16 (io), B24 IO_L2P_T0_16 (io), B25 IO_L2N_T0_16 (io), B26 VCCO_16 (power), B27 IO_L5N_T0_16 (io), B28 IO_L22P_T3_16 (io), B29 IO_L22N_T3_16 (io), B30 IO_L23P_T3_16 (io), C24 IO_L1N_T0_16 (io), C25 IO_L3P_T0_DQS_16 (io), C26 IO_L3N_T0_DQS_16 (io), C27 IO_L5P_T0_16 (io), C29 IO_L21P_T3_DQS_16 (io), C30 IO_L21N_T3_DQS_16 (io), D24 IO_L1P_T0_16 (io), D26 IO_L6P_T0_16 (io), D27 IO_L6N_T0_VREF_16 (io), D28 IO_L19N_T3_VREF_16 (io), D29 IO_L20N_T3_16 (io), D30 VCCO_16 (power), E24 IO_0_16 (io), E25 IO_L12P_T1_MRCC_16 (io), E26 IO_L12N_T1_MRCC_16 (io), E27 VCCO_16 (power), E28 IO_L19P_T3_16 (io), E29 IO_L20P_T3_16 (io), E30 IO_L16N_T2_16 (io), F24 VCCO_16 (power), F25 IO_L11P_T1_SRCC_16 (io), F26 IO_L11N_T1_SRCC_16 (io), F27 IO_L13N_T2_MRCC_16 (io), F28 IO_L14N_T2_SRCC_16 (io), F30 IO_L16P_T2_16 (io), G24 IO_L7N_T1_16 (io), G25 IO_L8N_T1_16 (io), G27 IO_L13P_T2_MRCC_16 (io), G28 IO_L14P_T2_SRCC_16 (io), G29 IO_L15N_T2_DQS_16 (io), G30 IO_L17N_T2_16 (io), H24 IO_L7P_T1_16 (io), H25 IO_L8P_T1_16 (io), H26 IO_L10P_T1_16 (io), H27 IO_L10N_T1_16 (io), H28 VCCO_16 (power), H29 IO_L15P_T2_DQS_16 (io), H30 IO_L17P_T2_16 (io), J24 IO_25_16 (io), J25 VCCO_16 (power), J26 IO_L9P_T1_DQS_16 (io), J27 IO_L9N_T1_DQS_16 (io), J28 IO_L18P_T2_16 (io), J29 IO_L18N_T2_16 (io), K24 IO_L15N_T2_DQS_ADV_B_15 (io), K25 IO_L7P_T1_AD10P_15 (io), K26 IO_L7N_T1_AD10N_15 (io), K28 IO_L1P_T0_AD0P_15 (io), K29 IO_L1N_T0_AD0N_15 (io), K30 IO_L2N_T0_AD8N_15 (io), L19 VCCO_15 (power), L20 IO_L18P_T2_A24_15 (io), L21 IO_L18N_T2_A23_15 (io), L22 IO_0_15 (io), L23 IO_L15P_T2_DQS_15 (io), L25 IO_L11N_T1_SRCC_AD12N_15 (io), L26 IO_L12P_T1_MRCC_AD5P_15 (io), L27 IO_L12N_T1_MRCC_AD5N_15 (io), L28 IO_L6N_T0_VREF_15 (io), L29 VCCO_15 (power), L30 IO_L2P_T0_AD8P_15 (io), M17 IO_L23N_T3_FWE_B_15 (io), M18 IO_L21P_T3_DQS_15 (io), M19 IO_L21N_T3_DQS_A18_15 (io), M20 IO_L19N_T3_A21_VREF_15 (io), M22 IO_L16N_T2_A27_15 (io), M23 IO_L13P_T2_MRCC_15 (io), M24 IO_L13N_T2_MRCC_15 (io), M25 IO_L11P_T1_SRCC_AD12P_15 (io), M26 VCCO_15 (power), M27 IO_L9N_T1_DQS_AD11N_15 (io), M28 IO_L6P_T0_15 (io), M29 IO_L4N_T0_AD9N_15 (io), M30 IO_L3N_T0_DQS_AD1N_15 (io), N17 IO_L23P_T3_FOE_B_15 (io), N19 IO_L22N_T3_A16_15 (io), N20 IO_L19P_T3_A22_15 (io), N21 IO_L20N_T3_A19_15 (io), N22 IO_L16P_T2_A28_15 (io), N23 VCCO_15 (power), N24 IO_L14P_T2_SRCC_15 (io), N25 IO_L14N_T2_SRCC_15 (io), N26 IO_L8N_T1_AD3N_15 (io), N27 IO_L9P_T1_DQS_AD11P_15 (io), N29 IO_L4P_T0_AD9P_15 (io), N30 IO_L3P_T0_DQS_AD1P_15 (io), P17 IO_L24P_T3_RS1_15 (io), P18 IO_L24N_T3_RS0_15 (io), P19 IO_L22P_T3_A17_15 (io), P20 VCCO_15 (power), P21 IO_L20P_T3_A20_15 (io), P22 IO_25_15 (io), P23 IO_L17P_T2_A26_15 (io), P24 IO_L17N_T2_A25_15 (io), P26 IO_L8P_T1_AD3P_15 (io), P27 IO_L10P_T1_AD4P_15 (io), P28 IO_L10N_T1_AD4N_15 (io), P29 IO_L5N_T0_AD2N_15 (io), P30 VCCO_15 (power), R29 IO_L5P_T0_AD2P_15 (io)
part D pins: A18 IO_L21N_T3_DQS_17 (io), A19 VCCO_17 (power), A20 IO_L22P_T3_17 (io), A21 IO_L22N_T3_17 (io), A22 IO_L24P_T3_17 (io), A23 IO_L24N_T3_17 (io), B16 VCCO_18 (power), B18 IO_L21P_T3_DQS_17 (io), B19 IO_L20P_T3_17 (io), B20 IO_L20N_T3_17 (io), B22 IO_L23P_T3_17 (io), B23 IO_L23N_T3_17 (io), C19 IO_L19P_T3_17 (io), C20 IO_L19N_T3_VREF_17 (io), C21 IO_L16P_T2_17 (io), C22 IO_L16N_T2_17 (io), C23 VCCO_17 (power), D18 IO_L18P_T2_17 (io), D19 IO_L18N_T2_17 (io), D20 VCCO_17 (power), D21 IO_L14P_T2_SRCC_17 (io), D22 IO_L14N_T2_SRCC_17 (io), D23 IO_L15N_T2_DQS_17 (io), E17 VCCO_18 (power), E18 IO_L17P_T2_17 (io), E19 IO_L17N_T2_17 (io), E20 IO_L13P_T2_MRCC_17 (io), E21 IO_L13N_T2_MRCC_17 (io), E23 IO_L15P_T2_DQS_17 (io), F14 VCCO_18 (power), F18 IO_L10N_T1_17 (io), F20 IO_L12P_T1_MRCC_17 (io), F21 IO_L12N_T1_MRCC_17 (io), F22 IO_L11N_T1_SRCC_17 (io), F23 IO_L7N_T1_17 (io), G18 IO_L10P_T1_17 (io), G19 IO_L9N_T1_DQS_17 (io), G20 IO_L8N_T1_17 (io), G21 VCCO_17 (power), G22 IO_L11P_T1_SRCC_17 (io), G23 IO_L7P_T1_17 (io), H18 VCCO_17 (power), H19 IO_L9P_T1_DQS_17 (io), H20 IO_L8P_T1_17 (io), H21 IO_0_17 (io), H22 IO_L2N_T0_17 (io), J15 VCCO_18 (power), J18 IO_L5P_T0_17 (io), J19 IO_L5N_T0_17 (io), J21 IO_L3N_T0_DQS_17 (io), J22 IO_L2P_T0_17 (io), J23 IO_L1N_T0_17 (io), K18 IO_L6N_T0_VREF_17 (io), K19 IO_L4P_T0_17 (io), K20 IO_L4N_T0_17 (io), K21 IO_L3P_T0_DQS_17 (io), K22 VCCO_17 (power), K23 IO_L1P_T0_17 (io), L17 IO_25_17 (io), L18 IO_L6P_T0_17 (io)
part E pins: AA3 MGTXRXN1_113 (io), AA4 MGTXRXP1_113 (io), AB1 MGTXTXN2_113 (io), AB2 MGTXTXP2_113 (io), AB5 MGTXRXN0_113 (io), AB6 MGTXRXP0_113 (io), AC3 MGTXRXN3_112 (io), AC4 MGTXRXP3_112 (io), AD1 MGTXTXN1_113 (io), AD2 MGTXTXP1_113 (io), AD5 MGTREFCLK0N_112 (io), AD6 MGTREFCLK0P_112 (io), AE3 MGTXRXN2_112 (io), AE4 MGTXRXP2_112 (io), AF1 MGTXTXN0_113 (io), AF2 MGTXTXP0_113 (io), AF5 MGTREFCLK1N_112 (io), AF6 MGTREFCLK1P_112 (io), AG3 MGTXRXN1_112 (io), AG4 MGTXRXP1_112 (io), AH1 MGTXTXN3_112 (io), AH2 MGTXTXP3_112 (io), AH5 MGTXRXN0_112 (io), AH6 MGTXRXP0_112 (io), AJ3 MGTXTXN1_112 (io), AJ4 MGTXTXP1_112 (io), AK1 MGTXTXN2_112 (io), AK2 MGTXTXP2_112 (io), AK5 MGTXTXN0_112 (io), AK6 MGTXTXP0_112 (io), U7 MGTREFCLK0N_113 (io), U8 MGTREFCLK0P_113 (io), W3 MGTXRXN3_113 (io), W4 MGTXRXP3_113 (io), W7 MGTREFCLK1N_113 (io), W8 MGTREFCLK1P_113 (io), Y1 MGTXTXN3_113 (io), Y2 MGTXTXP3_113 (io), Y5 MGTXRXN2_113 (io), Y6 MGTXRXP2_113 (io)
part F pins: F1 MGTXTXN3_115 (io), F2 MGTXTXP3_115 (io), H1 MGTXTXN2_115 (io), H2 MGTXTXP2_115 (io), J3 MGTXRXN3_115 (io), J4 MGTXRXP3_115 (io), J7 MGTREFCLK0N_115 (io), J8 MGTREFCLK0P_115 (io), K1 MGTXTXN1_115 (io), K2 MGTXTXP1_115 (io), K5 MGTXRXN2_115 (io), K6 MGTXRXP2_115 (io), L3 MGTXRXN1_115 (io), L4 MGTXRXP1_115 (io), L7 MGTREFCLK1N_115 (io), L8 MGTREFCLK1P_115 (io), M1 MGTXTXN0_115 (io), M2 MGTXTXP0_115 (io), M5 MGTXRXN0_115 (io), M6 MGTXRXP0_115 (io), N3 MGTXTXN3_114 (io), N4 MGTXTXP3_114 (io), P1 MGTXTXN2_114 (io), P2 MGTXTXP2_114 (io), P5 MGTXRXN3_114 (io), P6 MGTXRXP3_114 (io), R3 MGTXRXN2_114 (io), R4 MGTXRXP2_114 (io), R7 MGTREFCLK0N_114 (io), R8 MGTREFCLK0P_114 (io), T1 MGTXTXN1_114 (io), T2 MGTXTXP1_114 (io), T5 MGTREFCLK1N_114 (io), T6 MGTREFCLK1P_114 (io), U3 MGTXRXN1_114 (io), U4 MGTXRXP1_114 (io), V1 MGTXTXN0_114 (io), V2 MGTXTXP0_114 (io), V5 MGTXRXN0_114 (io), V6 MGTXRXP0_114 (io)
part G pins: A3 MGTXTXN2_116 (io), A4 MGTXTXP2_116 (io), A7 MGTXTXN1_117 (io), A8 MGTXTXP1_117 (io), A11 MGTXTXN3_117 (io), A12 MGTXTXP3_117 (io), B1 MGTXTXN1_116 (io), B2 MGTXTXP1_116 (io), B5 MGTXTXN3_116 (io), B6 MGTXTXP3_116 (io), B9 MGTXTXN2_117 (io), B10 MGTXTXP2_117 (io), C3 MGTXRXN3_116 (io), C4 MGTXRXP3_116 (io), C7 MGTXTXN0_117 (io), C8 MGTXTXP0_117 (io), C11 MGTXRXN3_117 (io), C12 MGTXRXP3_117 (io), D1 MGTXTXN0_116 (io), D2 MGTXTXP0_116 (io), D5 MGTXRXN2_116 (io), D6 MGTXRXP2_116 (io), D9 MGTXRXN1_117 (io), D10 MGTXRXP1_117 (io), E3 MGTXRXN1_116 (io), E4 MGTXRXP1_116 (io), E7 MGTREFCLK0N_117 (io), E8 MGTREFCLK0P_117 (io), E11 MGTXRXN2_117 (io), E12 MGTXRXP2_117 (io), F5 MGTREFCLK0N_116 (io), F6 MGTREFCLK0P_116 (io), F9 MGTXRXN0_117 (io), F10 MGTXRXP0_117 (io), G3 MGTXRXN0_116 (io), G4 MGTXRXP0_116 (io), G7 MGTREFCLK1N_117 (io), G8 MGTREFCLK1P_117 (io), H5 MGTREFCLK1N_116 (io), H6 MGTREFCLK1P_116 (io)
part H pins: AA6 MGTAVCC_G10 (power), AA8 MGTVCCAUX_G10 (power), AB3 MGTAVTT_G10 (power), AC2 MGTAVTT_G10 (power), AC6 MGTAVCC_G10 (power), AE6 MGTAVCC_G10 (power), AF3 MGTAVTT_G10 (power), AG2 MGTAVTT_G10 (power), AG6 MGTAVCC_G10 (power), AG9 MGTAVTT_G10 (power), AH7 MGTAVCC_G10 (power), AH11 MGTAVCC_G10 (power), AJ6 MGTAVTT_G10 (power), AJ9 MGTAVTT_G10 (power), AK3 MGTAVTT_G10 (power), AK7 MGTAVTT_G10 (power), AK11 MGTAVCC_G10 (power), B3 MGTAVTT_G11 (power), B7 MGTAVTT_G11 (power), B11 MGTAVCC_G11 (power), C2 MGTAVTT_G11 (power), C6 MGTAVTT_G11 (power), C9 MGTAVTT_G11 (power), D7 MGTAVCC_G11 (power), D11 MGTAVCC_G11 (power), E6 MGTAVCC_G11 (power), E9 MGTAVTT_G11 (power), F3 MGTAVTT_G11 (power), G2 MGTAVTT_G11 (power), G6 MGTAVCC_G11 (power), J6 MGTAVCC_G11 (power), K3 MGTAVTT_G11 (power), K8 MGTVCCAUX_G11 (power), L2 MGTAVTT_G11 (power), L6 MGTAVCC_G11 (power), N6 MGTAVCC_G10 (power), N7 MGTRREF_115 (power), N8 MGTAVTTRCAL_115 (power), P3 MGTAVTT_G10 (power), R2 MGTAVTT_G10 (power), R6 MGTAVCC_G10 (power), U6 MGTAVCC_G10 (power), V3 MGTAVTT_G10 (power), W2 MGTAVTT_G10 (power), W6 MGTAVCC_G10 (power), Y7 MGTVCCAUX_G10 (power)
part I pins: AB11 PROGRAM_B_0 (io), AB12 M2_0 (io), AC10 DONE_0 (io), AC11 CFGBVS_0 (io), AC12 M1_0 (io), AC13 M0_0 (io), H10 INIT_B_0 (io), H11 TDI_0 (io), H12 TCK_0 (io), H13 CCLK_0 (io), J10 VCCO_0 (power), J11 TMS_0 (io), J13 TDO_0 (io), K11 VCCO_0 (power), R12 VREFN_0 (io), R13 VP_0 (io), T12 VN_0 (io), T13 VREFP_0 (io), U12 DXN_0 (io), U13 DXP_0 (io)
part J pins: A1 GND (power), A2 GND (power), A5 GND (power), A6 GND (power), A9 GND (power), A10 GND (power), A13 GND (power), A24 GND (power), AA11 VCCINT (power), AA13 VCCINT (power), AA15 VCCBRAM (power), B4 GND (power), B8 GND (power), B12 GND (power), B13 GND (power), B21 GND (power), C1 GND (power), C5 GND (power), C10 GND (power), C13 GND (power), C18 GND (power), C28 GND (power), D3 GND (power), D4 GND (power), D8 GND (power), D12 GND (power), D13 GND (power), D15 GND (power), D25 GND (power), E1 GND (power), E2 GND (power), E5 GND (power), E10 GND (power), E13 GND (power), E22 GND (power), F4 GND (power), F7 GND (power), F8 GND (power), F11 GND (power), F12 GND (power), F13 GND (power), F19 GND (power), F29 GND (power), G1 GND (power), G5 GND (power), G9 GND (power), G10 GND (power), G11 GND (power), G12 GND (power), G13 VCCBATT_0 (power), G16 GND (power), G26 GND (power), H3 GND (power), H4 GND (power), H7 GND (power), H8 GND (power), H9 GND (power), H23 GND (power), J1 GND (power), J2 GND (power), J5 GND (power), J9 GND (power), J12 GND (power), J20 GND (power), J30 GND (power), K4 GND (power), K7 GND (power), K9 GND (power), K10 GND (power), K12 VCCINT (power), K13 GND (power), K14 VCCINT (power), K15 GND (power), K16 VCCINT (power), K17 GND (power), K27 GND (power), L1 GND (power), L5 GND (power), L9 GND (power), L10 GND (power), L11 VCCINT (power), L12 GND (power), L13 VCCINT (power), L14 GND (power), L15 VCCINT (power), L16 GND (power), L24 GND (power), M3 GND (power), M4 GND (power), M7 GND (power), M8 GND (power), M9 GND (power), M10 VCCINT (power), M11 GND (power), M12 VCCINT (power), M13 GND (power), M14 VCCINT (power), M15 GND (power), M16 VCCAUX (power), M21 GND (power), N1 GND (power), N2 GND (power), N5 GND (power), N9 GND (power), N10 GND (power), N11 VCCINT (power), N12 GND (power), N13 VCCINT (power), N14 GND (power), N15 VCCINT (power), N16 GND (power), N18 GND (power), N28 GND (power), P4 GND (power), P7 GND (power), P8 GND (power), P9 GND (power), P10 VCCINT (power), P12 GNDADC_0 (power), P13 VCCADC_0 (power), P14 VCCINT (power), P16 VCCAUX (power), R11 VCCINT (power), R15 VCCBRAM (power), T10 VCCINT (power), T14 VCCINT (power), T16 VCCAUX (power), U11 VCCINT (power), U15 VCCBRAM (power), V10 VCCINT (power), V12 VCCINT (power), V14 VCCINT (power), V16 VCCAUX (power), W11 VCCINT (power), W13 VCCINT (power), W15 VCCBRAM (power), Y10 VCCINT (power), Y12 VCCINT (power), Y14 VCCINT (power), Y16 VCCAUX (power)
part K pins: AA1 GND (power), AA2 GND (power), AA5 GND (power), AA7 GND (power), AA9 GND (power), AA10 GND (power), AA12 GND (power), AA14 GND (power), AA16 GND (power), AA24 GND (power), AB4 GND (power), AB7 GND (power), AB8 GND (power), AB9 GND (power), AB10 GND (power), AB13 GND (power), AB21 GND (power), AC1 GND (power), AC5 GND (power), AC9 GND (power), AC18 GND (power), AC28 GND (power), AD3 GND (power), AD4 GND (power), AD7 GND (power), AD8 GND (power), AD9 GND (power), AD10 GND (power), AD11 GND (power), AD12 GND (power), AD13 GND (power), AD15 GND (power), AD25 GND (power), AE1 GND (power), AE2 GND (power), AE5 GND (power), AE9 GND (power), AE10 GND (power), AE13 GND (power), AE22 GND (power), AF4 GND (power), AF7 GND (power), AF8 GND (power), AF11 GND (power), AF12 GND (power), AF13 GND (power), AF19 GND (power), AF29 GND (power), AG1 GND (power), AG5 GND (power), AG10 GND (power), AG13 GND (power), AG16 GND (power), AG26 GND (power), AH3 GND (power), AH4 GND (power), AH8 GND (power), AH12 GND (power), AH13 GND (power), AH23 GND (power), AJ1 GND (power), AJ2 GND (power), AJ5 GND (power), AJ10 GND (power), AJ13 GND (power), AJ20 GND (power), AJ30 GND (power), AK4 GND (power), AK8 GND (power), AK12 GND (power), AK13 GND (power), AK17 GND (power), AK27 GND (power), P11 GND (power), P15 GND (power), P25 GND (power), R1 GND (power), R5 GND (power), R9 GND (power), R10 GND (power), R14 GND (power), R16 GND (power), R22 GND (power), T3 GND (power), T4 GND (power), T7 GND (power), T8 GND (power), T9 GND (power), T11 GND (power), T15 GND (power), T19 GND (power), T29 GND (power), U1 GND (power), U2 GND (power), U5 GND (power), U9 GND (power), U10 GND (power), U14 GND (power), U16 GND (power), U26 GND (power), V4 GND (power), V7 GND (power), V8 GND (power), V9 GND (power), V11 GND (power), V13 GND (power), V15 GND (power), V23 GND (power), W1 GND (power), W5 GND (power), W9 GND (power), W10 GND (power), W12 GND (power), W14 GND (power), W16 GND (power), W20 GND (power), W30 GND (power), Y3 GND (power), Y4 GND (power), Y8 GND (power), Y9 GND (power), Y11 GND (power), Y13 GND (power), Y15 GND (power), Y17 GND (power), Y27 GND (power)

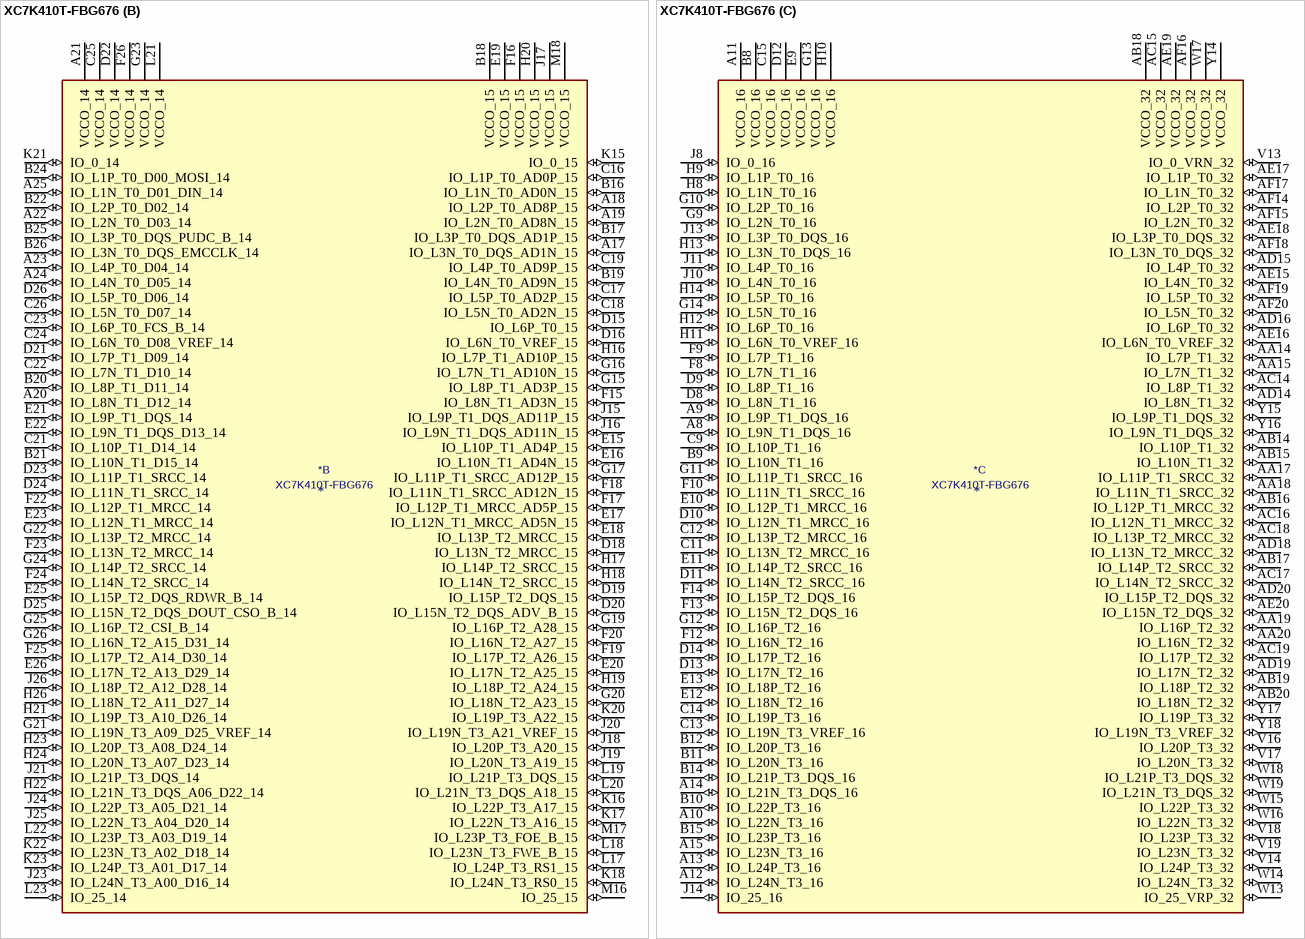
[diagram p27: symbol XC7K410T-FBG676]

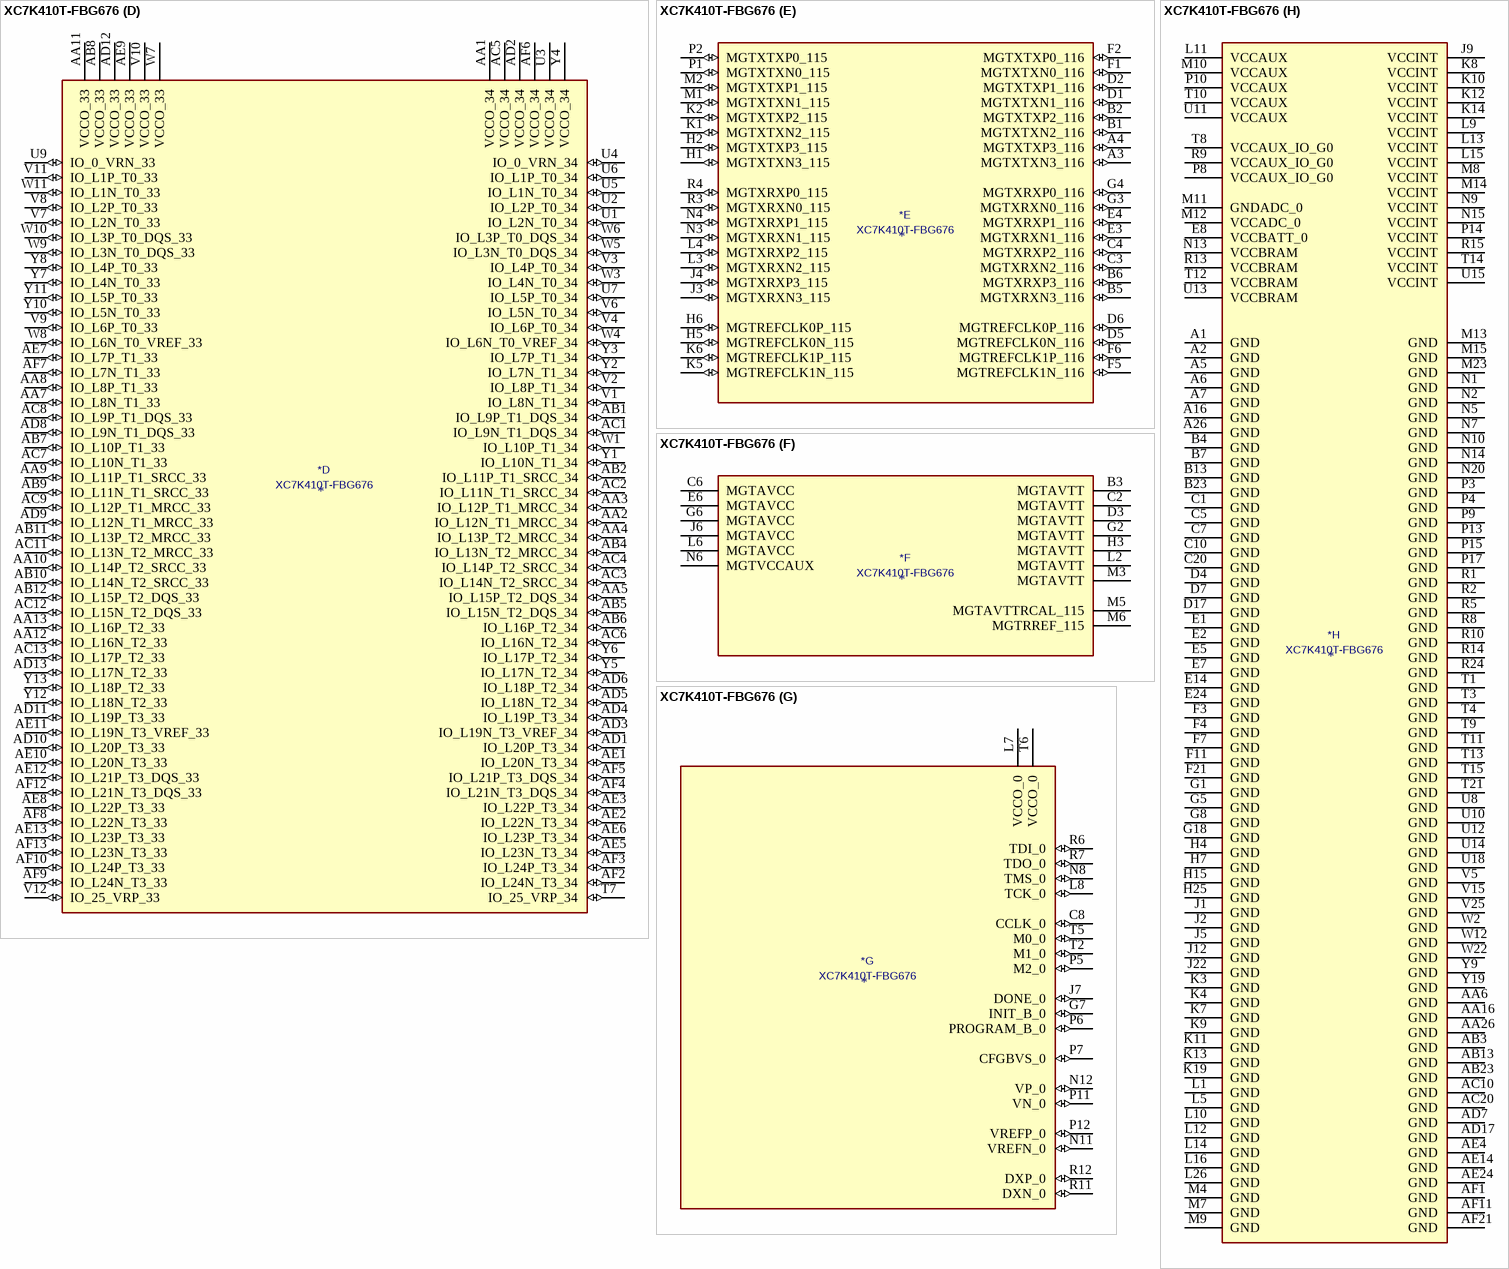
[diagram p28: symbol XC7K410T-FBG676]